# Altium footprint library VQFN-32_4x4x04P.PcbLib: 1 footprints
Each footprint in its own frame and in the unit in brackets; x right, y up, seen from the top. Pads: shape width x height; smd on the part's side, far side on the other; paste and mask are expansions set on the pad; w line width, h text height; cw(c..) or ccw(c..) is an arc to the next point about the centre after c.
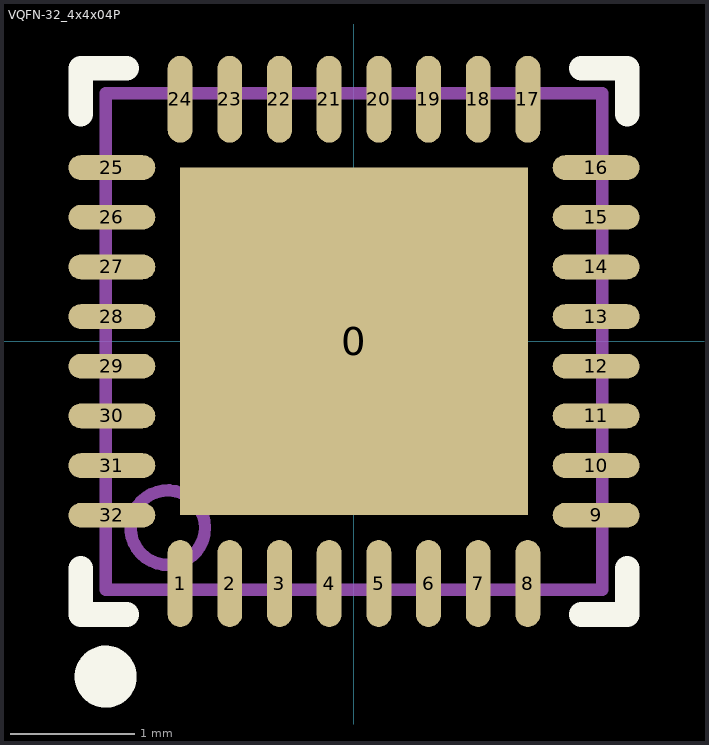
[diagram p0: the footprint, top view; thin cyan lines are the x and y axes]

## VQFN-32_4x4x04P [mm]
pads (33):
  rect 2.8x2.8 smd paste-0.025 mask+0.051: 0(0,0)
  oval 0.2x0.7 smd paste-0.025 mask+0.051: 1(-1.4,-1.95) 2(-1,-1.95) 3(-0.6,-1.95) 4(-0.2,-1.95) 5(0.2,-1.95) 6(0.6,-1.95) 7(1,-1.95) 8(1.4,-1.95) 17(1.4,1.95) 18(1,1.95) 19(0.6,1.95) 20(0.2,1.95) 21(-0.2,1.95) 22(-0.6,1.95) 23(-1,1.95) 24(-1.4,1.95)
  oval 0.7x0.2 smd paste-0.025 mask+0.051: 9(1.95,-1.4) 10(1.95,-1) 11(1.95,-0.6) 12(1.95,-0.2) 13(1.95,0.2) 14(1.95,0.6) 15(1.95,1) 16(1.95,1.4) 25(-1.95,1.4) 26(-1.95,1) 27(-1.95,0.6) 28(-1.95,0.2) 29(-1.95,-0.2) 30(-1.95,-0.6) 31(-1.95,-1) 32(-1.95,-1.4)
Top Overlay:
  circle w0.25: c-2,-2.7 r0.125
  lines w0.2: -2.2,-1.83 -2.2,-2.2 -1.83,-2.2 ; -2.2,1.83 -2.2,2.2 -1.83,2.2 ; 1.83,-2.2 2.2,-2.2 2.2,-1.83 ; 1.83,2.2 2.2,2.2 2.2,1.83
Mechanical 13:
  circle w0.1: c-1.5,-1.5 r0.3
  lines w0.1: -2,-2 -2,2 2,2 2,-2 -2,-2